# Altium footprint library PowerPAK-1212-8.PcbLib: 1 footprints
Each footprint in its own frame and in the unit in brackets; x right, y up, seen from the top. Pads: shape width x height; smd on the part's side, far side on the other; paste and mask are expansions set on the pad; w line width, h text height; cw(c..) or ccw(c..) is an arc to the next point about the centre after c.
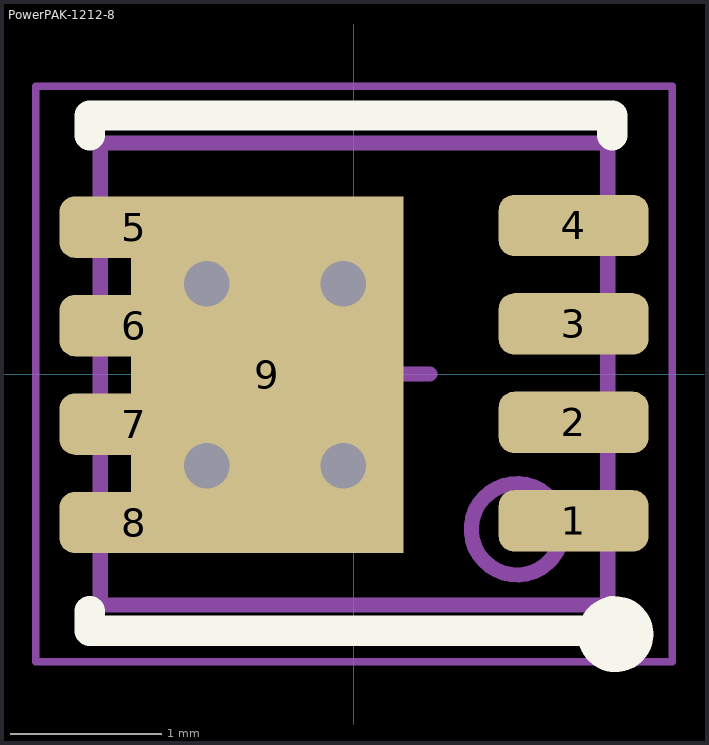
[diagram p0: the footprint, top view; thin cyan lines are the x and y axes]

## PowerPAK-1212-8 [mm] "PQFN, 8-Leads, Body 3.30x3.33mm, Pitch 0.65mm, Thermal Pad 2.34x1.80mm, IPC Medium Density"
height 1.05
pads (9):
  rrect50% 0.99x0.405 smd mask+0.05: 1(1.45,-0.969) 2(1.45,-0.319) 3(1.45,0.331) 5(-1.45,0.97) 6(-1.45,0.32) 7(-1.45,-0.33) 8(-1.45,-0.98)
  rrect50% 0.99x0.405 smd paste+0 mask+0.05: 4(1.45,0.981)
  rect 1.8x2.355 smd paste-3 mask+0.05: 9(-0.572,-0.005)
via -0.072,0.594 diameter 0.6 hole 0.3
via -0.972,0.594 diameter 0.6 hole 0.3
via -0.972,-0.605 diameter 0.6 hole 0.3
via -0.072,-0.605 diameter 0.6 hole 0.3
Top Overlay:
  circle w0.25: c1.726,-1.717 r0.125
  lines w0.2: -1.745,-1.564 -1.745,-1.694 ; -1.745,1.576 -1.745,1.706 -0.29,1.706 ; -1.737,1.706 1.705,1.706 1.705,1.576 ; -0.29,-1.694 -1.745,-1.694 ; 1.705,-1.564 1.705,-1.694 -1.745,-1.694
Top Paste:
  rectangle: -1.378,-1.106 -0.988,-0.106
  region: 0.293,-0.106 -0.097,-0.106 -0.097,-1.106 0.293,-1.106
  rectangle: -0.737,-1.106 -0.347,-0.106
  rectangle: -0.737,0.098 -0.347,1.098
  region: 0.293,1.097 -0.097,1.097 -0.097,0.097 0.293,0.097
  rectangle: -1.378,0.098 -0.988,1.098
Top Courtyard:
  lines w0.05: -2.1,1.9 2.1,1.9 ; -2.1,1.9 -2.1,1.9 ; -2.1,1.9 -2.1,-1.9 2.1,-1.9 2.1,1.9 ; 2.1,1.9 2.1,1.9
  lines w0.1: -0.5,0 0.5,0 ; 0,-0.5 0,0.5
Top Assembly:
  circle w0.1: c1.075,-1.025 r0.301
  lines w0.1: -1.675,-1.525 -1.675,1.525 1.675,1.525 1.675,-1.525 -1.675,-1.525
3D body "User Library-POWERPAK 1212-8SWLH.STEP": height 1.04, standoff 0, extent -1.65,-1.525 1.65,1.525